# Altium footprint library 2020-10-10_07-37-00.PcbLib: 3 footprints
Each footprint in its own frame and in the unit in brackets; x right, y up, seen from the top. Pads: shape width x height; smd on the part's side, far side on the other; paste and mask are expansions set on the pad; w line width, h text height; cw(c..) or ccw(c..) is an arc to the next point about the centre after c.
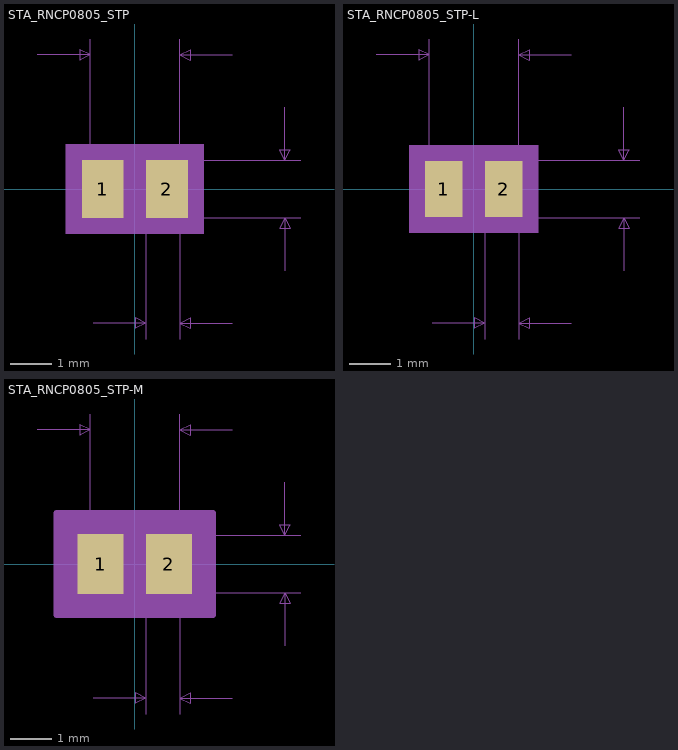
[diagram p0: the footprints below, top view; thin cyan lines are the x and y axes]

## STA_RNCP0805_STP [mil]
pads (2):
  rect 39.87x55 smd paste+0 mask+0: 1(-30.44,0) 2(30.44,0)
Mechanical 5:
  region: 65.37,-42.5 -65.37,-42.5 -65.37,42.5 65.37,42.5
Mechanical 7:
  lines w1: -92.5,127.5 -42.5,127.5 ; -42.5,0 -42.5,142.5 ; -39.5,-127.5 10.5,-127.5 ; 0,-27.5 157.5,-27.5 ; 0,27.5 157.5,27.5 ; 10.5,-142.5 10.5,0 ; 42.5,-142.5 42.5,0 42.5,142.5 ; 92.5,-127.5 42.5,-127.5 ; 92.5,127.5 42.5,127.5 ; 142.5,-77.5 142.5,-27.5 ; 142.5,77.5 142.5,27.5 ; -42.5,127.5 -52.5,132.5 -52.5,122.5 -42.5,127.5 ; 10.5,-127.5 0.5,-122.5 0.5,-132.5 10.5,-127.5 ; 42.5,-127.5 52.5,-122.5 52.5,-132.5 42.5,-127.5 ; 42.5,127.5 52.5,132.5 52.5,122.5 42.5,127.5 ; 142.5,-27.5 137.5,-37.5 147.5,-37.5 142.5,-27.5 ; 142.5,27.5 137.5,37.5 147.5,37.5 142.5,27.5
  text "Default Padstyle: r101_140" at -325,-297.5 h50
  text "Alt 1 Padstyle: b152_229h76" at -337.5,-357.5 h50
  text "Alt 2 Padstyle: b229_152h76" at -337.5,-417.5 h50
  text "0.055in/1.397mm" at 162.5,-12.5 h25
  text "0.085in/2.159mm" at -93.75,147.5 h25
  text "0.032in/0.813mm" at -67.25,-172.5 h25
Mechanical 13:
  lines w1: -42.5,-27.5 -42.5,27.5 ; -42.5,-27.5 -10.5,-27.5 -10.5,27.5 -42.5,27.5 ; -42.5,-27.5 42.5,-27.5 ; -42.5,-27.5 -42.5,27.5 ; -42.5,27.5 42.5,27.5 ; 42.5,-27.5 10.5,-27.5 10.5,27.5 42.5,27.5 ; 42.5,-27.5 42.5,27.5 ; 42.5,-27.5 42.5,27.5
Mechanical 15:
  region: 60.37,-37.5 -60.37,-37.5 -60.37,37.5 60.37,37.5
  lines w6: -60.37,-37.5 -60.37,37.5 60.37,37.5 60.37,-37.5 -60.37,-37.5
3D body: height 10, standoff 0, extent 0,0 10,10

## STA_RNCP0805_STP-L [mil]
pads (2):
  rect 35.94x53.03 smd paste+0 mask+0: 1(-28.47,0) 2(28.47,0)
Mechanical 5:
  region: 61.44,-41.52 -61.44,-41.52 -61.44,41.52 61.44,41.52
Mechanical 7:
  lines w1: -92.5,127.5 -42.5,127.5 ; -42.5,0 -42.5,142.5 ; -39.5,-127.5 10.5,-127.5 ; 0,-27.5 157.5,-27.5 ; 0,27.5 157.5,27.5 ; 10.5,-142.5 10.5,0 ; 42.5,-142.5 42.5,0 42.5,142.5 ; 92.5,-127.5 42.5,-127.5 ; 92.5,127.5 42.5,127.5 ; 142.5,-77.5 142.5,-27.5 ; 142.5,77.5 142.5,27.5 ; -42.5,127.5 -52.5,132.5 -52.5,122.5 -42.5,127.5 ; 10.5,-127.5 0.5,-122.5 0.5,-132.5 10.5,-127.5 ; 42.5,-127.5 52.5,-122.5 52.5,-132.5 42.5,-127.5 ; 42.5,127.5 52.5,132.5 52.5,122.5 42.5,127.5 ; 142.5,-27.5 137.5,-37.5 147.5,-37.5 142.5,-27.5 ; 142.5,27.5 137.5,37.5 147.5,37.5 142.5,27.5
  text "Default Padstyle: r91_135" at -312.5,-296.52 h50
  text "Alt 1 Padstyle: b152_229h76" at -337.5,-356.52 h50
  text "Alt 2 Padstyle: b229_152h76" at -337.5,-416.52 h50
  text "0.055in/1.397mm" at 162.5,-12.5 h25
  text "0.085in/2.159mm" at -93.75,147.5 h25
  text "0.032in/0.813mm" at -67.25,-172.5 h25
Mechanical 13:
  lines w1: -42.5,-27.5 -42.5,27.5 ; -42.5,-27.5 -10.5,-27.5 -10.5,27.5 -42.5,27.5 ; -42.5,-27.5 42.5,-27.5 ; -42.5,-27.5 -42.5,27.5 ; -42.5,27.5 42.5,27.5 ; 42.5,-27.5 10.5,-27.5 10.5,27.5 42.5,27.5 ; 42.5,-27.5 42.5,27.5 ; 42.5,-27.5 42.5,27.5
Mechanical 15:
  region: 50.44,-30.52 -50.44,-30.52 -50.44,30.52 50.44,30.52
  lines w6: -50.44,-30.52 -50.44,30.52 50.44,30.52 50.44,-30.52 -50.44,-30.52
3D body: height 10, standoff 0, extent 0,0 10,10

## STA_RNCP0805_STP-M [mil]
pads (2):
  rect 43.81x56.97 smd paste+0 mask+0: 1(-32.41,0) 2(32.41,0)
Mechanical 5:
  region: 69.31,-43.48 -69.31,-43.48 -69.31,43.48 69.31,43.48
Mechanical 7:
  lines w1: -92.5,127.5 -42.5,127.5 ; -42.5,0 -42.5,142.5 ; -39.5,-127.5 10.5,-127.5 ; 0,-27.5 157.5,-27.5 ; 0,27.5 157.5,27.5 ; 10.5,-142.5 10.5,0 ; 42.5,-142.5 42.5,0 42.5,142.5 ; 92.5,-127.5 42.5,-127.5 ; 92.5,127.5 42.5,127.5 ; 142.5,-77.5 142.5,-27.5 ; 142.5,77.5 142.5,27.5 ; -42.5,127.5 -52.5,132.5 -52.5,122.5 -42.5,127.5 ; 10.5,-127.5 0.5,-122.5 0.5,-132.5 10.5,-127.5 ; 42.5,-127.5 52.5,-122.5 52.5,-132.5 42.5,-127.5 ; 42.5,127.5 52.5,132.5 52.5,122.5 42.5,127.5 ; 142.5,-27.5 137.5,-37.5 147.5,-37.5 142.5,-27.5 ; 142.5,27.5 137.5,37.5 147.5,37.5 142.5,27.5
  text "Default Padstyle: r111_145" at -325,-298.48 h50
  text "Alt 1 Padstyle: b152_229h76" at -337.5,-358.48 h50
  text "Alt 2 Padstyle: b229_152h76" at -337.5,-418.48 h50
  text "0.055in/1.397mm" at 162.5,-12.5 h25
  text "0.085in/2.159mm" at -93.75,147.5 h25
  text "0.032in/0.813mm" at -67.25,-172.5 h25
Mechanical 13:
  lines w1: -42.5,-27.5 -42.5,27.5 ; -42.5,-27.5 -10.5,-27.5 -10.5,27.5 -42.5,27.5 ; -42.5,-27.5 42.5,-27.5 ; -42.5,-27.5 -42.5,27.5 ; -42.5,27.5 42.5,27.5 ; 42.5,-27.5 10.5,-27.5 10.5,27.5 42.5,27.5 ; 42.5,-27.5 42.5,27.5 ; 42.5,-27.5 42.5,27.5
Mechanical 15:
  region: 74.31,-48.48 -74.31,-48.48 -74.31,48.48 74.31,48.48
  lines w6: -74.31,-48.48 -74.31,48.48 74.31,48.48 74.31,-48.48 -74.31,-48.48
3D body: height 10, standoff 0, extent 0,0 10,10